# Altium schematic symbol library Cole_.SchLib: 330 symbols (part 5 of 10)
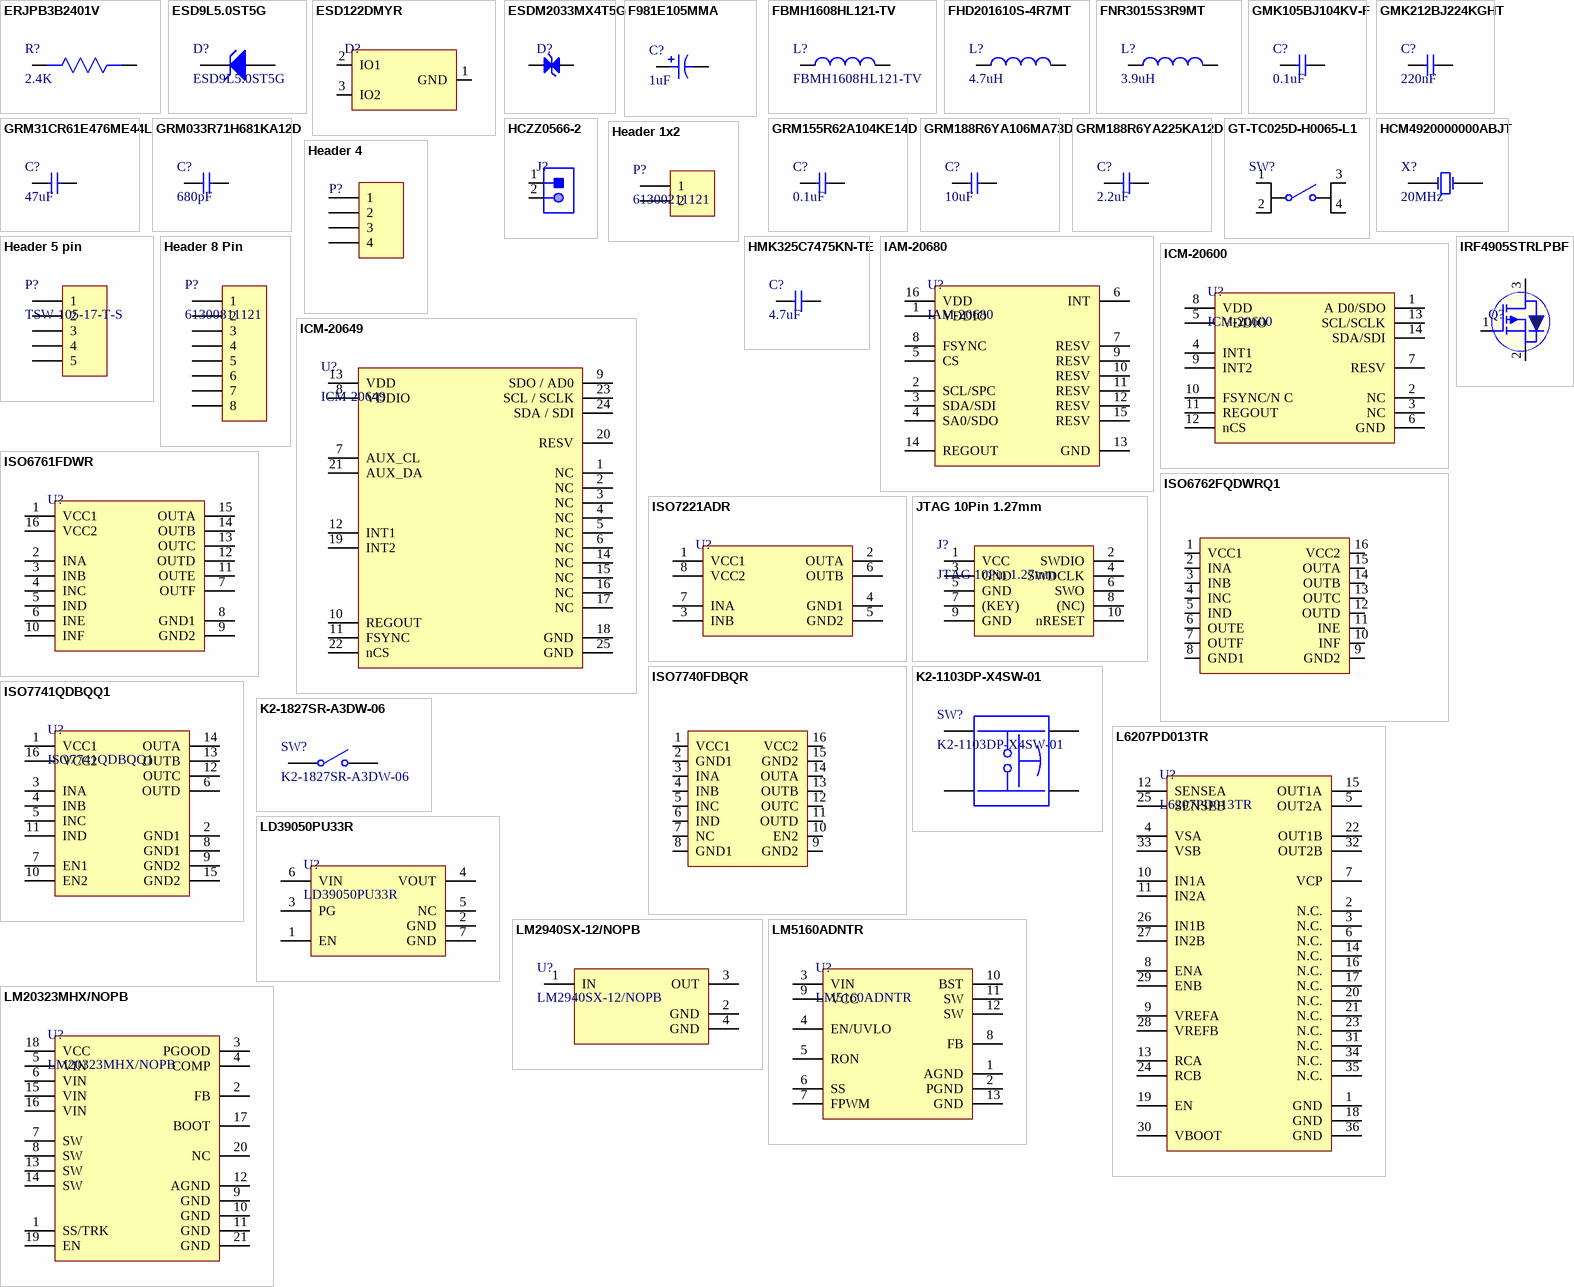
[diagram p12: symbols ERJPB3B2401V to LM20323MHX/NOPB]

## HCM4920000000ABJT
designator X?, comment 20MHz
CRYSTAL 20.0000MHZ 18PF SMD; Manufacturer: CITIZEN; Manufacturer Part Number: HCM4920000000ABJT; ackage: HCM-49SMD; Crystal Type: Passive SMD Crystal; Frequency Tolerance: 30ppm; ESR (Equivalent Series Resistance): 50R; Supplier 1: Digi-Key; RoHS: Yes; Category: Crystals; Stock 1: 172067; Pricing 1: 1=0.60000, 10=0.50000, 50=0.45000, 100=0.40000, 500=0.38000 (USD); Mount: Surface Mount; Min Operating Temperature: -40°C; Max Operating Temperature: 85°C; Load Capacitance: 18pF; Frequency: 20MHz; Lead Free: Lead Free; RoHS Compliant: Yes; ComponentLink1URL: https://datasheet.ciiva.com/16207/hcm49-16207144.pdf?src-supplier=Future+Electronics; ComponentLink1Description: https://datasheet.ciiva.com/16207/hcm49-16207144.pdf?src-supplier=Future+Electronics; Supplier Part Number 1: 300-6142-1-ND
footprint HCM4920000000ABJT (CRYSTAL 20.0000MHZ 18PF SMD)
pins: 1 OSC1, 2 OSC2

## HCZZ0566-2
designator J?
1X2P 1 GH Tinning 1.25mm Female 2 -25℃~+85℃ 1A Brass Straight Plugin,P=1.25mm Wire To Board / Wire To Wire Connector ROHS; Manufacturer: Hong Cheng; Manufacturer Part Number: HCZZ0566-2; Item Type: Wire To Board Connector; ComponentLink1Description: LCSC; ComponentLink1URL: https://www.lcsc.com/product-detail/Wire-To-Board-Wire-To-Wire-Connector_Hong-Cheng-HCZZ0566-2_C7433543.html; Package: Plugin,P=1.25mm; LCSC Part Number: C7433543
footprint HCZZ0566-2
pins: 1, 2

## Header 1x2
designator P?, comment 61300211121
CONN HEADER VERT 2POS 2.54MM; Manufacturer: Wurth Electronics; Current Rating: 3A; Voltage Rating: 250V; Number of Positions: 2; Gender: Male; Connector Type: Male Pin; Pitch: 0.1inch; Supplier 1: Digi-Key; Manufacturer Part Number: 61300211121; Stock 1: 219205; Pricing 1: 1=0.13, 10=0.106, 25=0.088, 50=0.074, 100=0.067, 1000=0.061 (USD); Mount: Through Hole; Contact Plating: Gold; Housing Material: PBT; Contact Material: Copper Alloy,Copper; Color: Black; Min Operating Temperature: -40°C; Max Operating Temperature: 125°C; Number of Rows: 1; Contact Gender: Male; Packaging: Bulk; Termination: Through Hole; Number of Contacts: 2; Contact Mating Length: 0.236inch; REACH SVHC: Unknown; Lead Free: Lead Free; ComponentLink1URL: http://www.mouser.com/ds/2/445/6130xx11121-538006.pdf?src-supplier=Mouser; ComponentLink1Description: http://www.mouser.com/ds/2/445/6130xx11121-538006.pdf?src-supplier=Mouser; Supplier Part Number 1: 732-5315-ND
footprint HDR1X2 (CONN HEADER VERT 2POS 2.54MM)
pins: 1, 2

## Header 4
designator P?
4 Pin Header (2.54mm); Manufacturer: Amphenol FCI; Manufacturer Part Number: 68002-404HLF; Number of Positions: 4; Max Voltage Rating (AC): 1.5kV; Gender: Male; Connector Type: Male Pin; Current Rating: 3A; Insulation Resistance: 5GR; Mating Post Length: 5.84mm; ComponentLink1URL: https://datasheet.ciiva.com/11747/0900766b80dc1d2b-11747084.pdf; ComponentLink1Description: https://datasheet.ciiva.com/11747/0900766b80dc1d2b-11747084.pdf; ComponentLink2URL: https://datasheet.ciiva.com/7639/1836950-7639727.pdf; ComponentLink2Description: https://datasheet.ciiva.com/7639/1836950-7639727.pdf; ComponentLink3URL: https://datasheet.ciiva.com/10151/m20-782-10151359.pdf; ComponentLink3Description: https://datasheet.ciiva.com/10151/m20-782-10151359.pdf; ComponentLink4URL: https://datasheet.ciiva.com/16657/m20-782-16657321.pdf; ComponentLink4Description: https://datasheet.ciiva.com/16657/m20-782-16657321.pdf; ComponentLink5URL: https://datasheet.ciiva.com/6784/m20-782-6784360.pdf; ComponentLink5Description: https://datasheet.ciiva.com/6784/m20-782-6784360.pdf; ComponentLink6URL: https://datasheet.ciiva.com/9474/68000-9474358.pdf; ComponentLink6Description: https://datasheet.ciiva.com/9474/68000-9474358.pdf; ComponentLink7URL: https://datasheet.ciiva.com/16725/68000-16725993.pdf; ComponentLink7Description: https://datasheet.ciiva.com/16725/68000-16725993.pdf; ComponentLink8URL: https://datasheet.ciiva.com/728/68000-728877.pdf; ComponentLink8Description: https://datasheet.ciiva.com/728/68000-728877.pdf; Supplier 1: Digi-Key; Stock 1: 9020; Pricing 1: 1=0.21, 10=0.195, 100=0.1352, 500=0.1144, 1000=0.0936, 5000=0.0832, 10000=0.0754 (USD); Mount: Through Hole; Contact Plating: Nickel,Tin; Contact Material: Bronze; Colour: Black; Housing Colour: Black; Housing Material: Thermoplastic; Min Operating Temperature: -65°C; Max Operating Temperature: 125°C; Number of Rows: 1; Packaging: Bulk; Package Quantity: 100; Termination: Solder; Number of Contacts: 4; Orientation: Straight; Voltage Rating: 1.5kV; Contact Gender: Male; Length: 10.16mm; Pitch: 2.54mm; Depth: 2.41mm; Contact Mating Length: 0.23inch; Termination Post Length: 3.81mm; Radiation Hardening: No; Flammability Rating: UL94 V-0; Supplier Part Number 1: 609-3305-ND
signal-integrity model Connector
footprint HEADER 4 (4 Pin Header (2.54mm))
pins: 1, 2, 3, 4

## Header 5 pin
designator P?, comment TSW-105-17-T-S
CONN HEADER VERT 5POS 2.54MM; Manufacturer: Samtec; Number of Contacts: 5; Gender: Male; Max Current Rating: 7.6A; Max Voltage Rating (AC): 550V; Connector Type: Male Pin; ComponentLink1URL: https://datasheet.ciiva.com/36535/38htsw-th-36535373.pdf?src-supplier=Onlinecomponents.com; ComponentLink1Description: https://datasheet.ciiva.com/36535/38htsw-th-36535373.pdf?src-supplier=Onlinecomponents.com; ComponentLink2URL: https://datasheet.ciiva.com/10256/htsw-th-10256062.pdf?src-supplier=Avnet; ComponentLink2Description: https://datasheet.ciiva.com/10256/htsw-th-10256062.pdf?src-supplier=Avnet; Supplier 1: Digi-Key; Manufacturer Part Number: TSW-105-17-T-S; RoHS: Yes; Category: Connectors; Stock 1: 1375; Pricing 1: 1=0.46000, 10=0.43300, 25=0.37080, 50=0.31520, 100=0.30280, 250=0.27192, 500=0.25956 (USD); Mount: Through Hole; Contact Material: Bronze; Contact Plating: Tin; Color: Black; Housing Color: Black; Housing Material: Polyester; Min Operating Temperature: -55°C; Max Operating Temperature: 105°C; Number of Rows: 1; Packaging: Bulk; Termination: Solder; Series: TSW; Number of Positions: 5; Orientation: Straight; Contact Type: Male Pin; Package Quantity: 1; Length: 12.7mm; Width: 2.54mm; Pitch: 2.54mm; Contact Mating Length: 0.62inch; Depth: 2.54mm; Radiation Hardening: No; RoHS Compliant: Yes; REACH SVHC: No SVHC; Lead Free: Lead Free; ComponentLink3URL: https://datasheet.ciiva.com/6889/tsw-xxx-xx-xxx-x-xx-xxx-mkt-6889598.pdf?src-supplier=Digi-Key; ComponentLink3Description: https://datasheet.ciiva.com/6889/tsw-xxx-xx-xxx-x-xx-xxx-mkt-6889598.pdf?src-supplier=Digi-Key; ComponentLink4URL: https://datasheet.ciiva.com/29947/htsw-th-29947983.pdf?src-supplier=Avnet; ComponentLink4Description: https://datasheet.ciiva.com/29947/htsw-th-29947983.pdf?src-supplier=Avnet; Supplier Part Number 1: SAM1067-05-ND
footprint Header 5 (Connector Header Through Hole 5 position 0.100" (2.54mm))
pins: 1, 2, 3, 4, 5

## Header 8 Pin
designator P?, comment 61300811121
CONN HEADER VERT 8POS 2.54MM; Manufacturer: Wurth Electronics; Number of Positions: 8; Gender: Male; Connector Type: Male Pin; Pitch: 0.1inch; Supplier 1: Digi-Key; Manufacturer Part Number: 61300811121; Stock 1: 7405; Pricing 1: 1=0.37, 10=0.315, 25=0.2632, 50=0.219, 100=0.199, 1000=0.181 (USD); Mount: Through Hole; Contact Plating: Gold; Contact Material: Copper; Color: Black; Number of Rows: 1; Packaging: Bulk; Termination: Solder; Number of Contacts: 8; Contact Mating Length: 0.236inch; REACH SVHC: Unknown; ComponentLink1URL: http://www.farnell.com/cad/1737268.pdf?src-supplier=Element14; ComponentLink1Description: http://www.farnell.com/cad/1737268.pdf?src-supplier=Element14; ComponentLink2URL: https://katalog.we-online.de/em/datasheet/6130xx11121.pdf?src-supplier=Digi-Key; ComponentLink2Description: https://katalog.we-online.de/em/datasheet/6130xx11121.pdf?src-supplier=Digi-Key; Supplier Part Number 1: 732-5321-ND
footprint HDR1X8 (Connector; Header; 8 Position)
pins: 1, 2, 3, 4, 5, 6, 7, 8

## HMK325C7475KN-TE
designator C?, comment 4.7uF
CAP CER 4.7UF 100V X7S 1210; Manufacturer: Taiyo Yuden; Manufacturer Part Number: HMK325C7475KN-TE; Tolerance: 10%; Supplier 1: Digi-Key; RoHS: Yes; Category: Ceramic Capacitors; Stock 1: 447; Pricing 1: 1=1.14000, 10=0.90200, 50=0.78180, 100=0.67660, 500=0.51124, 1000=0.45109 (USD); Mount: Surface Mount; Case/Package: 1210; Case Code (Imperial): 1210; Case Code (Metric): 3225; Min Operating Temperature: -55°C; Max Operating Temperature: 125°C; Packaging: Tape and Reel; Capacitance: 4.7uF; Voltage Rating: 100V; RoHS Compliant: Yes; ComponentLink1URL: http://ds.yuden.co.jp/TYCOMPAS/ut/detail.do?productNo=HMK325C7475KN-TE&fileName=HMK325C7475KN-TE_SS&mode=specSheetDownload&src-supplier=Digi-Key; ComponentLink1Description: http://ds.yuden.co.jp/TYCOMPAS/ut/detail.do?productNo=HMK325C7475KN-TE&fileName=HMK325C7475KN-TE_SS&mode=specSheetDownload&src-supplier=Digi-Key; ComponentLink2URL: http://www.yuden.co.jp/productdata/catalog/mlcc06_e.pdf?src-supplier=Digi-Key; ComponentLink2Description: http://www.yuden.co.jp/productdata/catalog/mlcc06_e.pdf?src-supplier=Digi-Key; Supplier Part Number 1: 587-5038-1-ND
footprint Cap1210 (SMD 1210)
pins: 1, 2

## IAM-20680
designator U?
AUTOMOTIVE QUALIFIED 6-AXIS INTE; Manufacturer: TDK InvenSense; Sensor Type: Accelerometer,Gyroscope,6 Axis; Output Type: SPI,I2C; Supplier 1: Digi-Key; Manufacturer Part Number: IAM-20680; RoHS: Yes; Category: Inertial Measurement Units (IMUs); Stock 1: 1986; Pricing 1: 1=14.80000, 5=14.49600, 10=12.08000, 25=11.17400, 50=10.87200, 100=9.36200, 500=8.75800, 1000=8.30500 (USD); Mount: Surface Mount; Case/Package: LGA; Min Operating Temperature: -40°C; Max Operating Temperature: 85°C; Packaging: Tape and Reel; RoHS Compliant: Yes; ComponentLink1URL: https://www.mouser.com/ds/2/400/DS-000192-ICM-20649-v1.0-1112523.pdf?src-supplier=Mouser; ComponentLink1Description: https://www.mouser.com/ds/2/400/DS-000192-ICM-20649-v1.0-1112523.pdf?src-supplier=Mouser; ComponentLink2URL: https://www.invensense.com/wp-content/uploads/2015/10/IAM-20680-Product-Brief-v1.01.pdf?src-supplier=Digi-Key; ComponentLink2Description: https://www.invensense.com/wp-content/uploads/2015/10/IAM-20680-Product-Brief-v1.01.pdf?src-supplier=Digi-Key; Supplier Part Number 1: 1428-1151-1-ND
footprint 16-LGA (3x3)
pins: 1 VDDIO, 2 SCL/SPC, 3 SDA/SDI, 4 SA0/SDO, 5 CS, 6 INT, 7 RESV, 8 FSYNC, 9 RESV, 10 RESV, 11 RESV, 12 RESV, 13 GND, 14 REGOUT , 15 RESV, 16 VDD

## ICM-20600
designator U?
LOW-POWER, HIGH-PERFORMANCE INTE; Manufacturer: TDK InvenSense; Sensor Type: Accelerometer,Gyroscope,6 Axis; Output Type: SPI,I2C; Supplier 1: Digi-Key; Manufacturer Part Number: ICM-20600; RoHS: Yes; Category: Inertial Measurement Units (IMUs); Pricing 1: 1=3.54000, 5=3.12000, 10=2.75600, 25=2.23600, 50=1.97600, 100=1.92400, 500=1.61200, 1000=1.50800 (USD); Mount: Surface Mount; Case/Package: LGA; Min Operating Temperature: -40°C; Max Operating Temperature: 85°C; Packaging: Cut Tape; RoHS Compliant: Yes; ComponentLink1URL: https://www.mouser.com/ds/2/400/DS-000184-ICM-20600-v1.0-1112739.pdf?src-supplier=Mouser; ComponentLink1Description: https://www.mouser.com/ds/2/400/DS-000184-ICM-20600-v1.0-1112739.pdf?src-supplier=Mouser; ComponentLink2URL: http://www.farnell.com/datasheets/2632675.pdf?src-supplier=Farnell; ComponentLink2Description: http://www.farnell.com/datasheets/2632675.pdf?src-supplier=Farnell; ComponentLink3URL: https://www.invensense.com/wp-content/uploads/2015/12/DS-000184-ICM-20600-v1.0.pdf?src-supplier=Digi-Key; ComponentLink3Description: https://www.invensense.com/wp-content/uploads/2015/12/DS-000184-ICM-20600-v1.0.pdf?src-supplier=Digi-Key; Supplier Part Number 1: 1428-1147-1-ND
footprint 14-LGA (2.5x3)
pins: 1 A D0/SDO, 2 NC, 3 NC, 4 INT1, 5 VDDIO, 6 GND, 7 RESV, 8 VDD, 9 INT2, 10 FSYNC/N C, 11 REGOUT, 12 nCS, 13 SCL/SCLK, 14 SDA/SDI

## ICM-20649
designator U?
WIDE-FULL SCALE RANGE 6-AXIS MEM; Manufacturer: TDK InvenSense; Sensor Type: Accelerometer,Gyroscope,6 Axis,Temperature; Output Type: SPI,I2C; Supplier 1: Digi-Key; Manufacturer Part Number: ICM-20649; RoHS: Yes; Category: Inertial Measurement Units (IMUs); Stock 1: 4990; Pricing 1: 1=12.32000, 5=8.00000, 10=7.20000, 25=6.40000, 50=5.92000, 100=5.12000, 500=4.80000, 1000=4.48000 (USD); Mount: Surface Mount; Case/Package: QFN; Min Operating Temperature: -40°C; Max Operating Temperature: 85°C; Packaging: Tape and Reel; RoHS Compliant: Yes; Supplier Part Number 1: 1428-1142-1-ND
footprint 24-QFN (3x3)
pins: 1 NC, 2 NC, 3 NC, 4 NC, 5 NC, 6 NC, 7 AUX_CL, 8 VDDIO, 9 SDO / AD0, 10 REGOUT, 11 FSYNC, 12 INT1, 13 VDD, 14 NC, 15 NC, 16 NC, 17 NC, 18 GND, 19 INT2, 20 RESV, 21 AUX_DA, 22 nCS, 23 SCL / SCLK, 24 SDA / SDI, 25 GND

## IRF4905STRLPBF
designator Q?
MOSFET P-CH 55V 42A D2PAK; Manufacturer: Infineon; Manufacturer Part Number: IRF4905STRLPBF; Drain to Source Voltage (Vdss): -55V; Input Capacitance: 3.5nF; Max Power Dissipation: 170W; Gate to Source Voltage (Vgs): 20V; Turn-Off Delay Time: 51ns; Turn-On Delay Time: 20ns; Rds On Max: 20mR; Threshold Voltage: 4V; Number of Elements: 1; Fall Time: 64ns; Rise Time: 99ns; Element Configuration: Single; Value: 20mR; Supplier: Mouser; Supplier Part Number: 942-IRF4905STRLPBF; RoHS: Yes; Category: MOSFETs; Stock: 48781; Pricing: 1=2.71, 10=2.23, 50=2.23, 100=1.75, 1000=1.28, 10000=1.16 (USD); Mounting Technology: Surface Mount; Case/Package: D2PAK; Pins: 3; Min Operating Temperature: -55°C; Max Operating Temperature: 150°C; Continuous Drain Current (ID): 42A; Packaging: Cut Tape; Series: HEXFET®; Power Dissipation: 170W; Max Dual Supply Voltage: -55V; Dual Supply Voltage: 55V; Nominal Vgs: 4V; Package Quantity: 800; Termination: SMD/SMT; Drain to Source Breakdown Voltage: -55V; Drain to Source Resistance: 20mR; Number of Channels: 1; On-State Resistance: 20mR; Length: 10.67mm; Width: 9.65mm; Height: 4.83mm; Radiation Hardening: No; Lead Free: Contains Lead; RoHS Compliant: Yes; Reach SVHC Compliant: No; Halogen Free: Halogen Free
footprint D2Pak
pins: 1 G, 2 S, 3 D

## ISO6761FDWR
designator U?
GENERAL PURPOSE, 50-MBPS, SIX-CH; Manufacturer: Texas Instruments; Manufacturer Part Number: ISO6761FDWR; Supplier 1: Digi-Key; RoHS: No; Stock 1: 818; Pricing 1: 1=3.93000, 10=3.53200, 25=3.33920, 100=2.89380, 250=2.74540, 500=2.46344, 1000=2.24000 (USD); Supplier Part Number 1: 296-ISO6761FDWRCT-ND
footprint 16-SOIC
pins: 1 VCC1, 2 INA, 3 INB, 4 INC, 5 IND, 6 INE, 7 OUTF, 8 GND1, 9 GND2, 10 INF, 11 OUTE, 12 OUTD, 13 OUTC, 14 OUTB, 15 OUTA, 16 VCC2

## ISO6762FQDWRQ1
designator U?
AUTOMOTIVE, GENERAL-PURPOSE, 50-; Item Type: IC; LCSC Part Number: C5216383; ComponentLink1Description: LCSC; Supplier: Mouser; Supplier Part Number: 595-ISO6762FQDWRQ1; RoHS: No; Category: Integrated Circuits (ICs); Stock: 8302; Pricing: 1=3.36, 10=2.94, 50=2.94, 100=2.48, 1000=1.78, 10000=1.77 (USD)
footprint 16-SOIC
pins: 1 VCC1, 2 INA, 3 INB, 4 INC, 5 IND, 6 OUTE, 7 OUTF, 8 GND1, 9 GND2, 10 INF, 11 INE, 12 OUTD, 13 OUTC, 14 OUTB, 15 OUTA, 16 VCC2

## ISO7221ADR
designator U?
DGTL ISO 2500VRMS 2CH GP 8SOIC; Manufacturer: Texas Instruments; Manufacturer Part Number: ISO7221ADR; Number of Channels: 2; Data Rate: 1Mbps; Propagation Delay: 475ns; Min Supply Voltage: 3V; Max Supply Voltage: 5.5V; Nominal Supply Current: 10mA; Channel Type: Unidirectional; Isolated Power: No; Pulse Width Distortion (PWD): 14ns; Operating Supply Voltage: 5V; Supplier 1: Mouser; RoHS: Yes; Category: Interface ICs; Pricing 1: 1=3.32000, 10=2.99000, 25=2.83000, 50=2.83000, 100=2.45000, 250=2.32000, 500=2.09000, 1000=1.82000, 10000=1.82000 (USD); Case/Package: SOIC; Number of Pins: 8; Contact Plating: Gold; Weight: 0.019048oz; Min Operating Temperature: -40°C; Max Operating Temperature: 125°C; Package Quantity: 1; Packaging: Tape and Reel; Turn-On Delay Time: 475ns; Type: General Purpose; Series: -; Polarity: Unidirectional; Supply Current: 10mA; Radiation Hardening: No; Lead Free: Lead Free; RoHS Compliant: Yes; REACH SVHC: No SVHC; ComponentLink1URL: https://datasheet.ciiva.com/1496/1763999-1496560.pdf?src-supplier=Element14; ComponentLink1Description: https://datasheet.ciiva.com/1496/1763999-1496560.pdf?src-supplier=Element14; ComponentLink2URL: https://datasheet.ciiva.com/2081/iso7220a-2081968.pdf?src-supplier=Digi-Key; ComponentLink2Description: https://datasheet.ciiva.com/2081/iso7220a-2081968.pdf?src-supplier=Digi-Key; ComponentLink3URL: https://datasheet.ciiva.com/2081/iso7220a-2081969.pdf?src-supplier=Digi-Key; ComponentLink3Description: https://datasheet.ciiva.com/2081/iso7220a-2081969.pdf?src-supplier=Digi-Key; ComponentLink4URL: https://datasheet.ciiva.com/2081/iso7220a-2081970.pdf?src-supplier=Digi-Key; ComponentLink4Description: https://datasheet.ciiva.com/2081/iso7220a-2081970.pdf?src-supplier=Digi-Key; ComponentLink5URL: https://datasheet.ciiva.com/14196/iso7221m-14196783.pdf?src-supplier=Avnet; ComponentLink5Description: https://datasheet.ciiva.com/14196/iso7221m-14196783.pdf?src-supplier=Avnet; ComponentLink6URL: https://datasheet.ciiva.com/15224/getdatasheetpartid-298868-15224022.pdf?src-supplier=Verical; ComponentLink6Description: https://datasheet.ciiva.com/15224/getdatasheetpartid-298868-15224022.pdf?src-supplier=Verical; Supplier Part Number 1: 595-ISO7221ADR
footprint SOIC-8
pins: 1 VCC1, 2 OUTA, 3 INB, 4 GND1, 5 GND2, 6 OUTB, 7 INA, 8 VCC2

## ISO7740FDBQR
designator U?
DGTL ISO 3000VRMS 4CH GP 16SSOP; Item Type: IC; LCSC Part Number: C544482; ComponentLink1Description: LCSC; Supplier: Mouser; Supplier Part Number: 595-ISO7740FDBQR; RoHS: Yes; Category: Integrated Circuits (ICs); Stock: 3733; Pricing: 1=2.67, 10=2.34, 50=2.34, 100=1.95, 1000=1.47, 10000=1.2 (USD); ComponentLink2URL: http://www.ti.com/general/docs/suppproductinfo.tsp?distId=10&amp;gotoUrl=http%3A%2F%2Fwww.ti.com%2Flit%2Fgpn%2Fiso7742&src-supplier=Digi-Key; ComponentLink2Description: http://www.ti.com/general/docs/suppproductinfo.tsp?distId=10&amp;gotoUrl=http%3A%2F%2Fwww.ti.com%2Flit%2Fgpn%2Fiso7742&src-supplier=Digi-Key; ComponentLink3URL: http://www.ti.com/lit/ds/symlink/iso7742.pdf?src-supplier=Digi-Key; ComponentLink3Description: http://www.ti.com/lit/ds/symlink/iso7742.pdf?src-supplier=Digi-Key
footprint 16-SSOP
pins: 1 VCC1, 2 GND1, 3 INA, 4 INB, 5 INC, 6 IND, 7 NC, 8 GND1, 9 GND2, 10 EN2, 11 OUTD, 12 OUTC, 13 OUTB, 14 OUTA, 15 GND2, 16 VCC2

## ISO7741QDBQQ1
designator U?
DGTL ISO 3000VRMS 4CH 16SSOP; Manufacturer: Texas Instruments; Number of Channels: 4; Isolated Power: No; Channel Type: Unidirectional; Data Rate: 100Mbps; Propagation Delay: 16ns; Pulse Width Distortion (PWD): 4.9ns; Supplier 1: Digi-Key; Manufacturer Part Number: ISO7741QDBQQ1; RoHS: Yes; Category: Integrated Circuits (ICs); Pricing 1: 225=2.92067 (USD); Mount: Surface Mount; Case/Package: SSOP; Min Operating Temperature: -40°C; Max Operating Temperature: 125°C; Type: General Purpose; RoHS Compliant: Yes; ComponentLink1URL: http://www.ti.com/lit/ds/symlink/iso7741-q1.pdf?src-supplier=Digi-Key; ComponentLink1Description: http://www.ti.com/lit/ds/symlink/iso7741-q1.pdf?src-supplier=Digi-Key; Supplier Part Number 1: ISO7741QDBQQ1-ND
footprint ISO7741QDBQQ1
pins: 1 VCC1, 2 GND1, 3 INA, 4 INB, 5 INC, 6 OUTD, 7 EN1, 8 GND1, 9 GND2, 10 EN2, 11 IND, 12 OUTC, 13 OUTB, 14 OUTA, 15 GND2, 16 VCC2

## JTAG 10Pin 1.27mm
designator J?
10 Pin JTAG Header for ICE programmer (1.27mm Pitch)
footprint JTAG 10Pin 1.27mm (Male header 1.27mm 5x2 10-Pin)
pins: 1 VCC, 2 SWDIO, 3 GND, 4 SWDCLK, 5 GND, 6 SWO, 7 (KEY), 8 (NC), 9 GND, 10 nRESET

## K2-1103DP-X4SW-01
designator SW?
SPST 50mA @ 12VDC Vertical Round Button Through Hole Tactile Switches RoHS; Manufacturer: Korean Hroparts Elec; Illumination: Non-Illuminated; Outline: 12x12mm; Package: Through Hole; Circuit: SPST; Contact Rating @ Voltage: 50mA @ 12VDC; Actuator Orientation: Vertical; Actuator Type: Round Button; Manufacturer Part No: K2-1103DP-X4SW-01
footprint K2-1103DP-X4SW-01 (? EasyEDA Model    Description  SPST 50mA @ 12VDC Vertical Round Button Through Hole Tactile Switches RoHS)
pins: 1, 2, 3, 4

## K2-1827SR-A3DW-06
designator SW?
SPST 50mA @ 12VDC Vertical Round Button 3*2.1mm Tactile Switches RoHS; Manufacturer: Korean Hroparts Elec; Package: 3*2.1mm; Circuit: SPST; Contact Rating @ Voltage: 50mA @ 12VDC; Actuator Orientation: Vertical; Actuator Type: Round Button
footprint K2-1827SR-A3DW-06 (SPST 50mA @ 12VDC Vertical Round Button 3*2.1mm Tactile Switches RoHS)
pins: 1, 2

## L6207PD013TR
designator U?
IC MOTOR DRIVER PAR 36POWERSO; Manufacturer: STMicroelectronics; Operating Supply Voltage: 48V; Nominal Supply Current: 10mA; Max Supply Voltage: 52V; Min Supply Voltage: 8V; Max Output Current: 5.6A; Number of Outputs: 4; On-State Resistance: 300mR; Output Current per Channel: 2.8A; Number of Channels: 2; Motor Type: Brushed; Supplier 1: Digi-Key; Manufacturer Part Number: L6207PD013TR; RoHS: Yes; Category: Motor Drivers; Stock 1: 1559; Pricing 1: 1=7.69000, 10=6.94600, 25=6.62320, 100=5.75100, 250=5.49248 (USD); Mount: Surface Mount; Number of Pins: 36; Min Operating Temperature: -25°C; Max Operating Temperature: 150°C; Packaging: Tape and Reel; Package Quantity: 1; Max Collector Current: 2.8A; Collector Emitter Voltage (VCEO): 52V; Series: -; Supply Current: 10mA; Output Impedance: 300mR; Length: 16mm; Width: 11.1mm; Height: 3.3mm; Radiation Hardening: No; Lead Free: Lead Free; RoHS Compliant: Yes; ComponentLink1URL: https://datasheet.ciiva.com/15109/getdatasheetpartid-255965-15109451.pdf?src-supplier=Verical; ComponentLink1Description: https://datasheet.ciiva.com/15109/getdatasheetpartid-255965-15109451.pdf?src-supplier=Verical; ComponentLink2URL: https://datasheet.ciiva.com/1955/cd00002293-1955584.pdf?src-supplier=Digi-Key; ComponentLink2Description: https://datasheet.ciiva.com/1955/cd00002293-1955584.pdf?src-supplier=Digi-Key; ComponentLink3URL: https://datasheet.ciiva.com/1955/cd00002293-1955585.pdf?src-supplier=Digi-Key; ComponentLink3Description: https://datasheet.ciiva.com/1955/cd00002293-1955585.pdf?src-supplier=Digi-Key; ComponentLink4URL: https://datasheet.ciiva.com/1955/cd00002293-1955586.pdf?src-supplier=Digi-Key; ComponentLink4Description: https://datasheet.ciiva.com/1955/cd00002293-1955586.pdf?src-supplier=Digi-Key; ComponentLink5URL: https://datasheet.ciiva.com/16458/cd00002293-16458167.pdf?src-supplier=Future+Electronics; ComponentLink5Description: https://datasheet.ciiva.com/16458/cd00002293-16458167.pdf?src-supplier=Future+Electronics; ComponentLink6URL: https://datasheet.ciiva.com/17233/cd00002293-17233880.pdf?src-supplier=Avnet+Europe; ComponentLink6Description: https://datasheet.ciiva.com/17233/cd00002293-17233880.pdf?src-supplier=Avnet+Europe; ComponentLink7URL: https://datasheet.ciiva.com/41457/001185253-da-01-en-ic-motor-dri-l6207pd013tr-powerso-36-stm-41457930.pdf?src-supplier=Conrad; ComponentLink7Description: https://datasheet.ciiva.com/41457/001185253-da-01-en-ic-motor-dri-l6207pd013tr-powerso-36-stm-41457930.pdf?src-supplier=Conrad; Supplier Part Number 1: 497-4000-1-ND
footprint PowerSO-36
pins: 1 GND, 2 N.C., 3 N.C., 4 VSA, 5 OUT2A, 6 N.C., 7 VCP, 8 ENA, 9 VREFA, 10 IN1A, 11 IN2A, 12 SENSEA, 13 RCA, 14 N.C., 15 OUT1A, 16 N.C., 17 N.C., 18 GND, 19 EN, 20 N.C., 21 N.C., 22 OUT1B, 23 N.C., 24 RCB, 25 SENSEB, 26 IN1B, 27 IN2B, 28 VREFB, 29 ENB, 30 VBOOT, 31 N.C., 32 OUT2B, 33 VSB, 34 N.C., 35 N.C., 36 GND

## LD39050PU33R
designator U?
IC REG LINEAR 3.3V 500MA 6DFN; Manufacturer: STMicroelectronics; Dropout Voltage: 200mV; Max Input Voltage: 5.5V; Min Input Voltage: 1.5V; Number of Outputs: 1; Input Bias Current: 20uA; Polarity: Positive; Quiescent Current: 50uA; Accuracy: 2%; Output Type: Fixed; Supplier 1: Digi-Key; Manufacturer Part Number: LD39050PU33R; RoHS: Yes; Category: Voltage Regulators - Linear; Stock 1: 7524; Pricing 1: 1=1.15000, 10=1.03200, 25=0.97960, 100=0.80450, 250=0.75208, 500=0.66462, 1000=0.57750 (USD); Mount: Surface Mount; Case/Package: DFN EP; Number of Pins: 6; Contact Plating: Tin,Matte; Min Operating Temperature: -40°C; Max Operating Temperature: 125°C; Package Quantity: 1; Packaging: Tape and Reel; Output Voltage: 3.3V; Max Output Current: 500mA; Output Current: 500mA; Number of Regulators: 1; Min Output Voltage: 3.3V; Output Voltage Accuracy: 2%; Series: -; Radiation Hardening: No; Lead Free: Lead Free; RoHS Compliant: Yes; ComponentLink1URL: https://datasheet.ciiva.com/15111/getdatasheetpartid-116115-15111821.pdf?src-supplier=Verical; ComponentLink1Description: https://datasheet.ciiva.com/15111/getdatasheetpartid-116115-15111821.pdf?src-supplier=Verical; ComponentLink2URL: https://datasheet.ciiva.com/41441/001186049-da-01-en-ic-reg-ldo-3-3v-ld39050pu33r-vdfn-6-stm-41441150.pdf?src-supplier=Conrad; ComponentLink2Description: https://datasheet.ciiva.com/41441/001186049-da-01-en-ic-reg-ldo-3-3v-ld39050pu33r-vdfn-6-stm-41441150.pdf?src-supplier=Conrad; ComponentLink3URL: https://datasheet.ciiva.com/2043/cd00227527-2043264.pdf?src-supplier=Digi-Key; ComponentLink3Description: https://datasheet.ciiva.com/2043/cd00227527-2043264.pdf?src-supplier=Digi-Key; ComponentLink4URL: https://datasheet.ciiva.com/2043/cd00227527-2043265.pdf?src-supplier=Digi-Key; ComponentLink4Description: https://datasheet.ciiva.com/2043/cd00227527-2043265.pdf?src-supplier=Digi-Key; ComponentLink5URL: https://datasheet.ciiva.com/16457/cd00227527-16457803.pdf?src-supplier=Future+Electronics; ComponentLink5Description: https://datasheet.ciiva.com/16457/cd00227527-16457803.pdf?src-supplier=Future+Electronics; ComponentLink6URL: https://datasheet.ciiva.com/2043/cd00227527-2043263.pdf?src-supplier=Digi-Key; ComponentLink6Description: https://datasheet.ciiva.com/2043/cd00227527-2043263.pdf?src-supplier=Digi-Key; Supplier Part Number 1: 497-8716-1-ND
footprint DFN-6
pins: 1 EN, 2 GND, 3 PG, 4 VOUT, 5 NC, 6 VIN, 7 GND

## LM2940SX-12/NOPB
designator U?
IC REG LIN 12V 1A DDPAK/TO263-3; Manufacturer: TI National Semiconductor; Number of Outputs: 1; Min Input Voltage: 13.6V; Max Input Voltage: 26V; Polarity: Positive; Quiescent Current: 15mA; Output Type: Fixed; Dropout Voltage: 500mV; Supplier 1: Digi-Key; Manufacturer Part Number: LM2940SX-12/NOPB; RoHS: Yes; Category: Voltage Regulators - Linear; Stock 1: 65; Pricing 1: 1=2.01000, 10=1.80900, 25=1.70640, 100=1.45400, 250=1.36528 (USD); Mount: Surface Mount; Case/Package: TO-263; Contact Plating: Tin,Matte; Min Operating Temperature: -40°C; Max Operating Temperature: 125°C; Output Voltage: 12V; Packaging: Tape and Reel; Package Quantity: 500; Output Current: 1A; Max Output Current: 1A; Number of Regulators: 1; Radiation Hardening: No; Lead Free: Contains Lead; RoHS Compliant: Yes; ComponentLink1URL: https://datasheet.ciiva.com/27051/1263574-27051792.pdf?src-supplier=Jameco; ComponentLink1Description: https://datasheet.ciiva.com/27051/1263574-27051792.pdf?src-supplier=Jameco; ComponentLink2URL: https://datasheet.ciiva.com/41458/001014001-da-01-en-ic-reg-ldo-lm2940sx-12-nopb-to-263-3-tid-41458130.pdf?src-supplier=Conrad; ComponentLink2Description: https://datasheet.ciiva.com/41458/001014001-da-01-en-ic-reg-ldo-lm2940sx-12-nopb-to-263-3-tid-41458130.pdf?src-supplier=Conrad; ComponentLink3URL: https://datasheet.ciiva.com/6580/lm2940-n-6580270.pdf?src-supplier=Digi-Key; ComponentLink3Description: https://datasheet.ciiva.com/6580/lm2940-n-6580270.pdf?src-supplier=Digi-Key; Supplier Part Number 1: LM2940SX-12/NOPBCT-ND
footprint TO-263-3 (Fixed 26V 12V 1V @ 1A TO-263-3 Dropout Regulators(LDO) RoHS)
pins: 1 IN, 2 GND, 3 OUT, 4 GND

## LM5160ADNTR
designator U?
IC REG BUCK FLYBCK ADJ 12WSON; Manufacturer: Texas Instruments; Number of Outputs: 1; Min Input Voltage: 4.5V; Max Input Voltage: 65V; Min Output Voltage: 2V; Max Output Voltage: 60V; Output Current: 1.5A; Switching Frequency: 1MHz; Synchronous Rectifier: Yes; Quiescent Current: 2.3mA; Topology: Flyback; Output Type: Adjustable; Supplier 1: Digi-Key; Manufacturer Part Number: LM5160ADNTR; RoHS: Yes; Category: Power Supply Modules; Pricing 1: 1=5.87000, 10=5.27300, 25=4.98480, 100=4.32000, 250=4.09848, 500=3.67756 (USD); Mount: Surface Mount; Min Operating Temperature: -40°C; Max Operating Temperature: 125°C; Packaging: Tape and Reel; Lead Free: Lead Free; RoHS Compliant: Yes; ComponentLink1URL: http://www.ti.com/lit/ds/symlink/lm5160a.pdf?src-supplier=Digi-Key; ComponentLink1Description: http://www.ti.com/lit/ds/symlink/lm5160a.pdf?src-supplier=Digi-Key; ComponentLink2URL: http://www.ti.com/general/docs/suppproductinfo.tsp?distId=10&amp;gotoUrl=http%3A%2F%2Fwww.ti.com%2Flit%2Fgpn%2Flm5160a&src-supplier=Digi-Key; ComponentLink2Description: http://www.ti.com/general/docs/suppproductinfo.tsp?distId=10&amp;gotoUrl=http%3A%2F%2Fwww.ti.com%2Flit%2Fgpn%2Flm5160a&src-supplier=Digi-Key; Supplier Part Number 1: 296-46121-6-ND
footprint LM5160ADNTR
pins: 1 AGND, 2 PGND, 3 VIN, 4 EN/UVLO, 5 RON, 6 SS, 7 FPWM, 8 FB, 9 VCC, 10 BST, 11 SW, 12 SW, 13 GND

## LM20323MHX/NOPB
designator U?
Step-down type HTSSOP-20 DC-DC Converters ROHS; Manufacturer: TI National Semiconductor; Output Voltage: 32V; Number of Outputs: 1; Max Output Current: 3A; Min Input Voltage: 4.5V; Max Input Voltage: 36V; Efficiency: 93%; Switching Frequency: 520kHz; Synchronous Rectifier: Yes; Min Output Voltage: 800mV; Max Output Voltage: 25.2V; Quiescent Current: 2.3mA; Output Type: Adjustable; Output Configuration: Positive; Supplier 1: Digi-Key; Manufacturer Part Number: LM20323MHX/NOPB; RoHS: Yes; Category: Voltage Regulators - Switching; Stock 1: 2210; Pricing 1: 1=3.89000, 10=3.49200, 25=3.30080, 100=2.86070, 250=2.71404, 500=2.43528, 1000=2.42200 (USD); Mount: Surface Mount; Case/Package: HTSSOP; Number of Pins: 20; Contact Plating: Tin,Matte; Min Operating Temperature: -40°C; Max Operating Temperature: 125°C; Output Current: 3A; Package Quantity: 2500; Operating Supply Voltage: 36V; Packaging: Tape and Reel; Series: PowerWise®; Radiation Hardening: No; Lead Free: Lead Free; RoHS Compliant: Yes; ComponentLink1URL: https://datasheet.ciiva.com/6593/lm20323-6593565.pdf?src-supplier=Digi-Key; ComponentLink1Description: https://datasheet.ciiva.com/6593/lm20323-6593565.pdf?src-supplier=Digi-Key; ComponentLink2URL: https://datasheet.ciiva.com/6604/lm20323-6604285.pdf?src-supplier=Digi-Key; ComponentLink2Description: https://datasheet.ciiva.com/6604/lm20323-6604285.pdf?src-supplier=Digi-Key; ComponentLink3URL: https://datasheet.ciiva.com/6593/lm20323-6593566.pdf?src-supplier=Digi-Key; ComponentLink3Description: https://datasheet.ciiva.com/6593/lm20323-6593566.pdf?src-supplier=Digi-Key; Supplier Part Number 1: LM20323MHX/NOPBCT-ND
footprint HTSSOP-20
pins: 1 SS/TRK, 2 FB, 3 PGOOD, 4 COMP, 5 VIN, 6 VIN, 7 SW, 8 SW, 9 GND, 10 GND, 11 GND, 12 AGND, 13 SW, 14 SW, 15 VIN, 16 VIN, 17 BOOT, 18 VCC, 19 EN, 20 NC, 21 GND

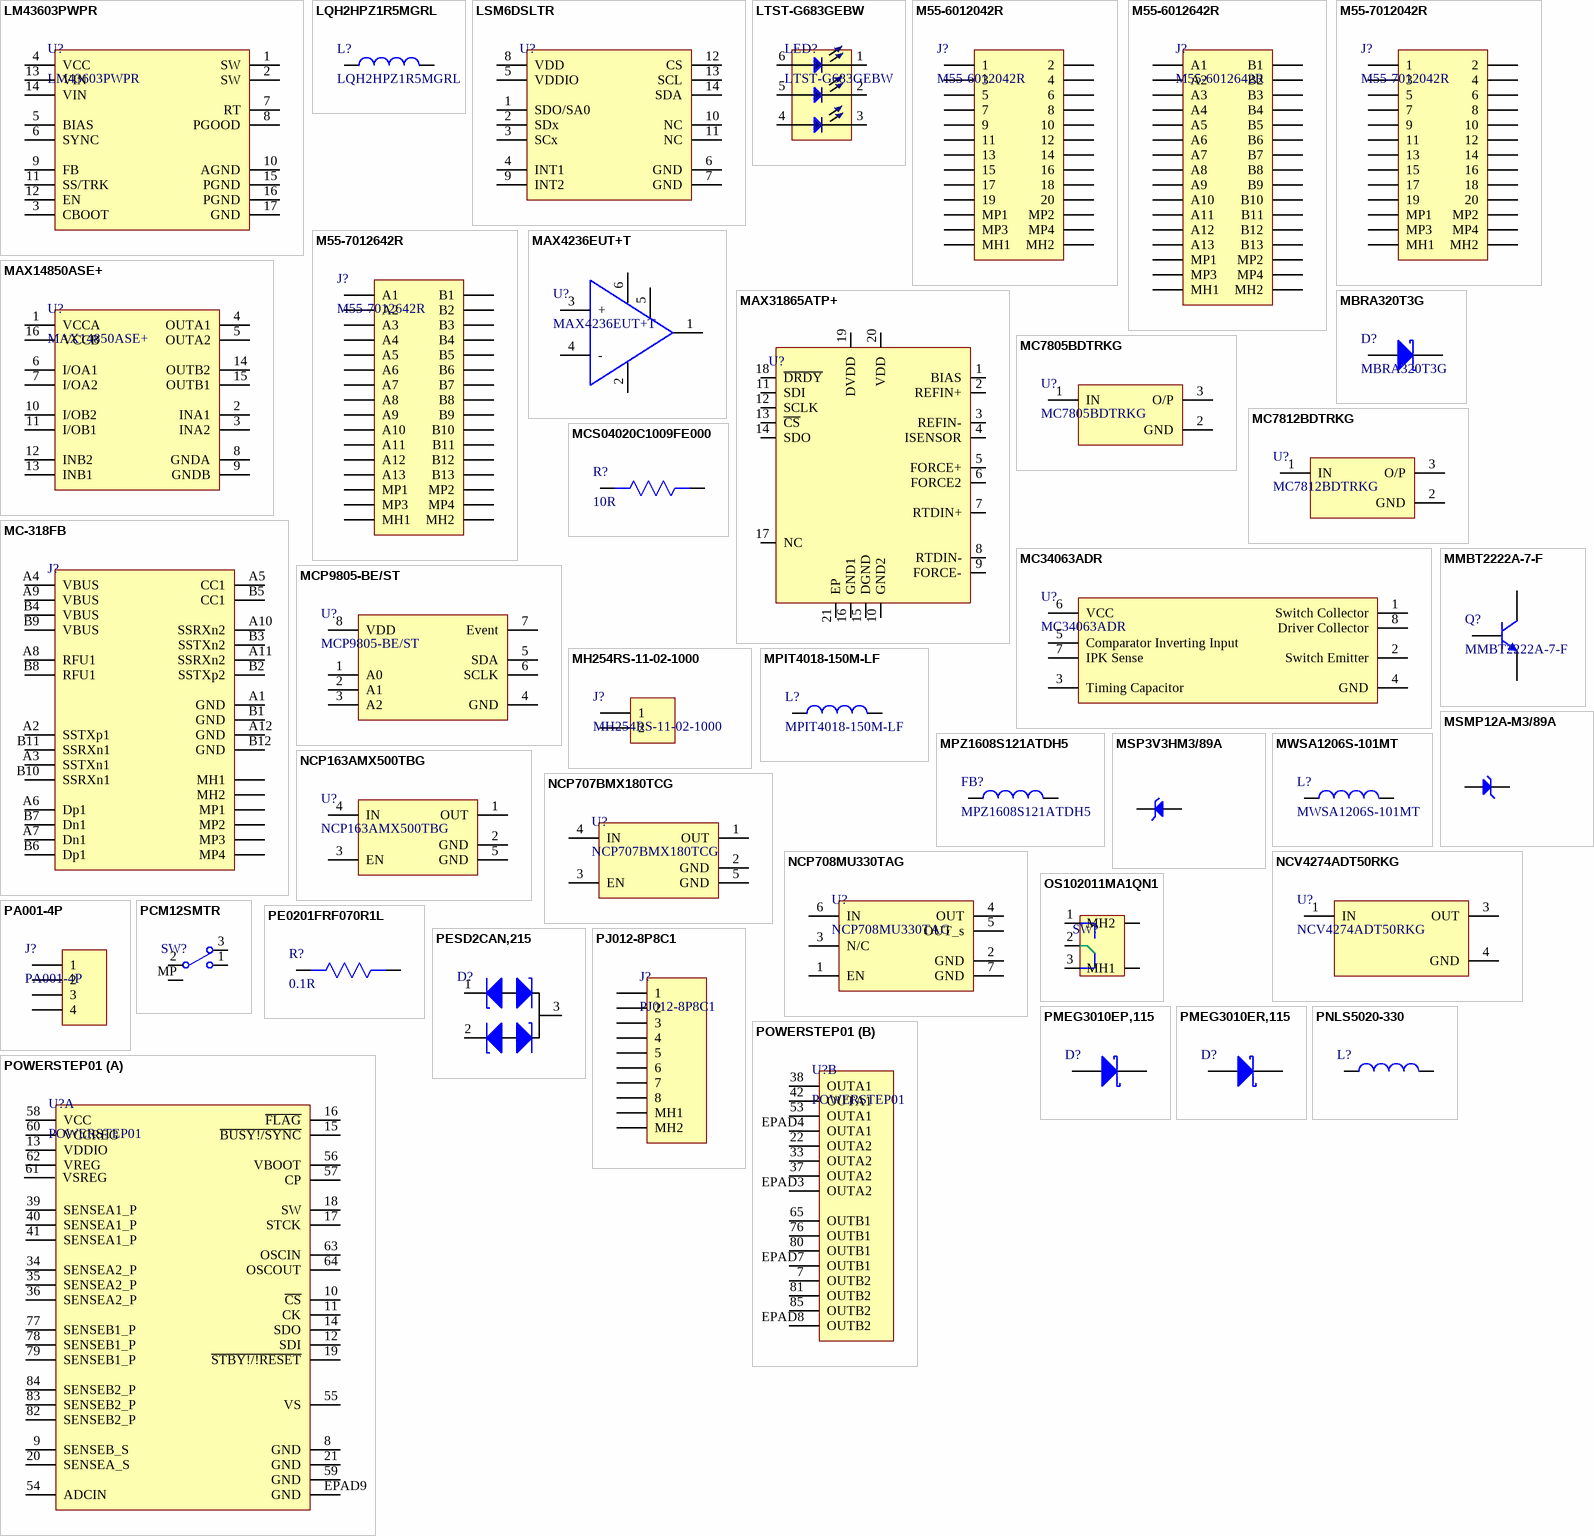
[diagram p4: symbols LM43603PWPR to POWERSTEP01]

## LM43603PWPR
designator U?
3.5V to 36V, 3A Synchronous Step-Down Voltage Converter 16-HTSSOP -40 to 125; Manufacturer: Texas Instruments; Number of Outputs: 1; Output Voltage: 28V; Switching Frequency: 2.2MHz; Quiescent Current: 27uA; Supplier 1: Digi-Key; Manufacturer Part Number: LM43603PWPR; RoHS: Yes; Category: Power Supply Modules; Pricing 1: 1=5.03000, 10=4.51800, 25=4.27160, 100=3.70200, 250=3.51216, 500=3.15144, 1000=3.13425 (USD); Mount: Surface Mount; Case/Package: SOP; Number of Pins: 16; Weight: 0.225753oz; Min Operating Temperature: -40°C; Max Operating Temperature: 125°C; Packaging: Tape and Reel; Max Output Current: 3A; Min Input Voltage: 3.5V; Max Input Voltage: 36V; Package Quantity: 2000; Operating Supply Voltage: 36V; Radiation Hardening: No; Lead Free: Lead Free; RoHS Compliant: Yes; ComponentLink1URL: http://www.ti.com/general/docs/lit/getliterature.tsp?genericPartNumber=LM43603&&fileType=pdf&src-supplier=Avnet; ComponentLink1Description: http://www.ti.com/general/docs/lit/getliterature.tsp?genericPartNumber=LM43603&&fileType=pdf&src-supplier=Avnet; ComponentLink2URL: http://www.ti.com/general/docs/suppproductinfo.tsp?distId=10&amp;gotoUrl=http%3A%2F%2Fwww.ti.com%2Flit%2Fgpn%2Flm43603&src-supplier=Digi-Key; ComponentLink2Description: http://www.ti.com/general/docs/suppproductinfo.tsp?distId=10&amp;gotoUrl=http%3A%2F%2Fwww.ti.com%2Flit%2Fgpn%2Flm43603&src-supplier=Digi-Key; ComponentLink3URL: http://www.ti.com/lit/ds/symlink/lm43603.pdf?src-supplier=Digi-Key; ComponentLink3Description: http://www.ti.com/lit/ds/symlink/lm43603.pdf?src-supplier=Digi-Key; ComponentLink4URL: http://www.ti.com/lit/gpn/lm43603?src-supplier=Mouser; ComponentLink4Description: http://www.ti.com/lit/gpn/lm43603?src-supplier=Mouser; Supplier Part Number 1: 296-44477-1-ND
footprint HTSSOP-16
pins: 1 SW, 2 SW, 3 CBOOT, 4 VCC, 5 BIAS, 6 SYNC, 7 RT, 8 PGOOD, 9 FB, 10 AGND, 11 SS/TRK, 12 EN, 13 VIN, 14 VIN, 15 PGND, 16 PGND, 17 GND

## LQH2HPZ1R5MGRL
designator L?
1.5uH ±20% SMD Power Inductors ROHS; Manufacturer: Murata; Supplier 1: Digi-Key; Manufacturer Part Number: LQH2HPZ1R5MGRL; RoHS: Yes; Category: Fixed Inductors; Stock 1: 5012; Pricing 1: 1=0.46000, 10=0.40400, 25=0.37520, 50=0.31760, 100=0.28880, 250=0.27144, 500=0.24256, 1000=0.19635 (USD); RoHS Compliant: Yes; Supplier Part Number 1: 490-15894-1-ND
footprint LQH2HPZ1R5MGRL
pins: 1, 2

## LSM6DSLTR
designator U?
IMUACCEL/GYROI2C/SPI14LGA; Manufacturer: STMicroelectronics; Manufacturer Part Number: LSM6DSLTR; Sensor Type: Accelerometer,Gyroscope,3 Axis,Temperature; Output Type: SPI,I2C; Item Type: IC; Supplier 1: Digi-Key; RoHS: Yes; Category: Inertial Measurement Units (IMUs); Stock 1: 17790; Pricing 1: 1=6.37000, 10=5.72400, 25=5.41120, 100=4.68960, 250=4.44912, 500=3.99218, 1000=3.97040 (USD); Mount: Surface Mount; Case/Package: LGA; Min Operating Temperature: -40°C; Max Operating Temperature: 85°C; Packaging: Tape and Reel; RoHS Compliant: Yes; ComponentLink1URL: http://www.farnell.com/datasheets/2290668.pdf?src-supplier=Farnell; ComponentLink1Description: http://www.farnell.com/datasheets/2290668.pdf?src-supplier=Farnell; ComponentLink2URL: https://www.mouser.com/ds/2/389/lsm6dsl-973708.pdf?src-supplier=Mouser; ComponentLink2Description: https://www.mouser.com/ds/2/389/lsm6dsl-973708.pdf?src-supplier=Mouser; ComponentLink3URL: http://www.farnell.com/datasheets/2290668.pdf?src-supplier=Newark; ComponentLink3Description: http://www.farnell.com/datasheets/2290668.pdf?src-supplier=Newark; ComponentLink4URL: http://www.farnell.com/datasheets/2290668.pdf?src-supplier=Element14; ComponentLink4Description: http://www.farnell.com/datasheets/2290668.pdf?src-supplier=Element14; ComponentLink5URL: http://www.st.com/content/ccc/resource/technical/document/datasheet/ee/23/a0/dc/1d/68/45/52/DM00237456.pdf/files/DM00237456.pdf/jcr:content/translations/en.DM00237456.pdf?src-supplier=Digi-Key; ComponentLink5Description: http://www.st.com/content/ccc/resource/technical/document/datasheet/ee/23/a0/dc/1d/68/45/52/DM00237456.pdf/files/DM00237456.pdf/jcr:content/translations/en.DM00237456.pdf?src-supplier=Digi-Key; LCSC Part Number: C126672; Supplier Part Number 1: 497-16705-1-ND
footprint 14 LGA (2.5x3)
pins: 1 SDO/SA0, 2 SDx, 3 SCx, 4 INT1, 5 VDDIO, 6 GND, 7 GND, 8 VDD, 9 INT2, 10 NC, 11 NC, 12 CS, 13 SCL, 14 SDA

## LTST-G683GEBW
designator LED?
Standard LEDs - SMD SMD LED Red/Grn/Blue 625/1550/260 mcd; Manufacturer: Vishay Lite-On; Color: Blue,Green,Red; Luminous Intensity: 267.5mcd; Viewing Angle: 120°; Lens Style: Diffused,Circular; Forward Voltage: 3.8V; Forward Current: 20mA; Lens Transparency: Diffused; Dominant Wavelength: 525nm; Number of Elements: 3; Reverse Voltage: 5V; Supplier 1: Mouser; Manufacturer Part Number: LTST-G683GEBW; RoHS: Yes; Category: LEDs; Stock 1: 43790; Pricing 1: 1=0.51000, 10=0.46000, 50=0.46000, 100=0.34600, 500=0.29900, 1000=0.23600, 2000=0.21200, 10000=0.20900, 24000=0.20400, 50000=0.19700 (USD); Mount: Surface Mount; Case/Package: PLCC; Number of Pins: 6; Min Operating Temperature: -40°C; Max Operating Temperature: 85°C; Packaging: Tape and Reel; Package Quantity: 2000; Test Current: 20mA; Number of LEDs: 3; Series: -; Length: 3.3mm; Width: 3mm; Height: 1.45mm; Depth: 3.2mm; Radiation Hardening: No; Lead Free: Lead Free; RoHS Compliant: Yes; ComponentLink1URL: https://datasheet.ciiva.com/2959/s-110-ltst-g683gebw-2959963.pdf?src-supplier=Digi-Key; ComponentLink1Description: https://datasheet.ciiva.com/2959/s-110-ltst-g683gebw-2959963.pdf?src-supplier=Digi-Key; ComponentLink2URL: https://datasheet.ciiva.com/12403/s-110-ltst-g683gebw-337108-12403142.pdf?src-supplier=Mouser; ComponentLink2Description: https://datasheet.ciiva.com/12403/s-110-ltst-g683gebw-337108-12403142.pdf?src-supplier=Mouser; Supplier Part Number 1: 859-LTST-G683GEBW
footprint LTST-G683GEBW
pins: 1 -, 2 -, 3 -, 4 +, 5 +, 6 +

## M55-6012042R
designator J?
CONN RCPT 1.27MM DUAL SMD 20POS; Manufacturer: Harwin; Connector Type: Receptacle,Socket; Number of Positions: 20; Current Rating: 1.2A; Voltage Rating (AC): 100V; Mated Stacking Heights: 13.9mm; Supplier 1: Digi-Key; Manufacturer Part Number: M55-6012042R; RoHS: Yes; Category: Connectors; Stock 1: 144; Pricing 1: 1=1.88000, 10=1.71000, 100=1.46580 (USD); Mount: Surface Mount; Contact Plating: Gold; Insulation Color: Black; Min Operating Temperature: -55°C; Max Operating Temperature: 125°C; Fastening Type: Latch; Packaging: Cut Tape; Number of Rows: 2; Termination: Solder; Flammability Rating: UL94 V-0; RoHS Compliant: Yes; ComponentLink1URL: https://media.digikey.com/pdf/Data%20Sheets/Harwin%20PDFs/Harwin_Archer_Kontrol_New_Product.pdf?src-supplier=Digi-Key; ComponentLink1Description: https://media.digikey.com/pdf/Data%20Sheets/Harwin%20PDFs/Harwin_Archer_Kontrol_New_Product.pdf?src-supplier=Digi-Key; ComponentLink2URL: https://cdn.harwin.com/pdfs/M55-60X.pdf?src-supplier=Digi-Key; ComponentLink2Description: https://cdn.harwin.com/pdfs/M55-60X.pdf?src-supplier=Digi-Key; Supplier Part Number 1: 952-3845-1-ND
footprint M55-6012042R
pins: 1, 2, 3, 4, 5, 6, 7, 8, 9, 10, 11, 12, 13, 14, 15, 16, 17, 18, 19, 20, MH1, MH2, MP1, MP2, MP3, MP4

## M55-6012642R
designator J?
CONN RCPT 26POS 0.05 GOLD SMD; Manufacturer: Harwin; Supplier 1: Digi-Key; Manufacturer Part Number: M55-6012642R; RoHS: Yes; Category: Connectors; Stock 1: 320; Pricing 1: 1=2.50000, 10=2.17600, 100=1.94480 (USD); RoHS Compliant: Yes; Supplier Part Number 1: 952-3846-1-ND
footprint M55-6012642R
pins: A1, A2, A3, A4, A5, A6, A7, A8, A9, A10, A11, A12, A13, B1, B2, B3, B4, B5, B6, B7, B8, B9, B10, B11, B12, B13, MH1, MH2, MP1, MP2, MP3, MP4

## M55-7012042R
designator J?
CONN HEADER SMD 20POS 1.27MM; Manufacturer: Harwin; Supplier 1: Digi-Key; Manufacturer Part Number: M55-7012042R; RoHS: Yes; Category: Connectors; Stock 1: 1091; Pricing 1: 1=1.29000, 10=1.13300, 100=0.97770 (USD); RoHS Compliant: Yes; Supplier Part Number 1: 952-3877-1-ND
footprint M55-7012042R
pins: 1, 2, 3, 4, 5, 6, 7, 8, 9, 10, 11, 12, 13, 14, 15, 16, 17, 18, 19, 20, MH1, MH2, MP1, MP2, MP3, MP4

## M55-7012642R
designator J?
CONN HEADER SMD 26POS 1.27MM; Manufacturer: Harwin; Supplier 1: Digi-Key; Manufacturer Part Number: M55-7012642R; RoHS: Yes; Category: Connectors; Stock 1: 384; Pricing 1: 1=1.43000, 10=1.24900, 100=1.11570 (USD); RoHS Compliant: Yes; Supplier Part Number 1: 952-3878-1-ND
footprint M55-7012642R
pins: A1, A2, A3, A4, A5, A6, A7, A8, A9, A10, A11, A12, A13, B1, B2, B3, B4, B5, B6, B7, B8, B9, B10, B11, B12, B13, MH1, MH2, MP1, MP2, MP3, MP4

## MAX4236EUT+T
designator U?
IC OPAMP GP 1.7MHZ RRO SOT23-6; Manufacturer: Maxim; Common Mode Rejection Ratio: 102dB; Max Supply Voltage: 5.5V; Min Supply Voltage: 2.4V; Voltage Gain: 128dB; Max Power Dissipation: 696mW; Slew Rate: 0.3V/µs; Input Offset Voltage (Vos): 5uV; Input Bias Current: 1pA; Operating Supply Current: 350uA; Number of Channels: 1; Power Supply Rejection Ratio (PSRR): 120dB; Output Current per Channel: 30mA; Supply Type: Single; Dual Supply Voltage: 2.75V; Amplifier Type: GENERAL PURPOSE; Supplier 1: Digi-Key; Manufacturer Part Number: MAX4236EUT+T; RoHS: Yes; Category: Amplifiers - Op Amps, Buffer, Instrumentation; Stock 1: 5148; Pricing 1: 1=2.31000, 10=2.07800, 25=1.96000, 100=1.66990, 250=1.56800, 500=1.47000 (USD); Mount: Surface Mount; Case/Package: SOT-23-6; Number of Pins: 6; Contact Plating: Tin,Matte; Min Operating Temperature: -40°C; Max Operating Temperature: 85°C; Gain Bandwidth Product: 1.7MHz; Packaging: Tape and Reel; Package Quantity: 1; Number of Circuits: 1; Bandwidth: 1.7MHz; Nominal Supply Current: 350uA; Number of Amplifiers: 1; Supply Current: 350uA; Series: -; Length: 3mm; Width: 1.75mm; Height: 1.3mm; Radiation Hardening: No; REACH SVHC: Unknown; RoHS Compliant: Yes; ComponentLink1URL: https://datasheet.ciiva.com/26846/max4236eut-t-26846323.pdf?src-supplier=IIIC; ComponentLink1Description: https://datasheet.ciiva.com/26846/max4236eut-t-26846323.pdf?src-supplier=IIIC; ComponentLink2URL: https://datasheet.ciiva.com/1802/max4236-max4237-1802043.pdf?src-supplier=Digi-Key; ComponentLink2Description: https://datasheet.ciiva.com/1802/max4236-max4237-1802043.pdf?src-supplier=Digi-Key; ComponentLink3URL: https://datasheet.ciiva.com/14347/max4236-max4237-14347431.pdf?src-supplier=Avnet; ComponentLink3Description: https://datasheet.ciiva.com/14347/max4236-max4237-14347431.pdf?src-supplier=Avnet; ComponentLink4URL: https://datasheet.ciiva.com/1802/max4236-max4237-1802041.pdf?src-supplier=Digi-Key; ComponentLink4Description: https://datasheet.ciiva.com/1802/max4236-max4237-1802041.pdf?src-supplier=Digi-Key; ComponentLink5URL: https://datasheet.ciiva.com/1802/max4236-max4237-1802042.pdf?src-supplier=Digi-Key; ComponentLink5Description: https://datasheet.ciiva.com/1802/max4236-max4237-1802042.pdf?src-supplier=Digi-Key; ComponentLink6URL: https://datasheet.ciiva.com/17574/max4236-max4237-17574234.pdf?src-supplier=Avnet+Europe; ComponentLink6Description: https://datasheet.ciiva.com/17574/max4236-max4237-17574234.pdf?src-supplier=Avnet+Europe; Supplier Part Number 1: MAX4236EUT+TCT-ND
footprint SOT-23-6 (IC OPAMP GP 1 CIRCUIT SOT23-6)
pins: 1 OUT, 2 VEE, 3 +, 4 -, 5 ~{SHDN}, 6 VCC

## MAX14850ASE+
designator U?
DGTL ISO 600VRMS 6CH GP 16SOIC; Manufacturer: Maxim; Number of Channels: 6; Data Rate: 50Mbps; Propagation Delay: 20ns; Min Supply Voltage: 3V; Max Supply Voltage: 5.5V; Channel Type: Bidirectional; Operating Supply Current: 7.2mA; Max Power Dissipation: 1.067W; Isolated Power: No; Supplier 1: Future Electronics; Manufacturer Part Number: MAX14850ASE+; RoHS: Yes; Category: Interface ICs; Stock 1: 3; Pricing 1: 1=2.33000, 25=2.05000, 50=2.00000, 150=1.91000, 300=1.86000 (USD); Case/Package: SOIC; Number of Pins: 16; Min Operating Temperature: -40°C; Max Operating Temperature: 125°C; Package Quantity: 100; Packaging: Rail/Tube; Series: -; Type: General Purpose; REACH SVHC: Unknown; RoHS Compliant: Yes; ComponentLink1URL: http://www.farnell.com/datasheets/2001849.pdf?src-supplier=Farnell; ComponentLink1Description: http://www.farnell.com/datasheets/2001849.pdf?src-supplier=Farnell; ComponentLink2URL: http://www.mouser.com/ds/2/256/MAX14850-103728.pdf?src-supplier=Mouser; ComponentLink2Description: http://www.mouser.com/ds/2/256/MAX14850-103728.pdf?src-supplier=Mouser; ComponentLink3URL: http://datasheets.maximintegrated.com/en/ds/MAX14850.pdf?src-supplier=Avnet; ComponentLink3Description: http://datasheets.maximintegrated.com/en/ds/MAX14850.pdf?src-supplier=Avnet; ComponentLink4URL: http://www.farnell.com/datasheets/2001849.pdf?src-supplier=Element14; ComponentLink4Description: http://www.farnell.com/datasheets/2001849.pdf?src-supplier=Element14; ComponentLink5URL: https://pdfserv.maximintegrated.com/en/an/REFD5742.pdf?src-supplier=Digi-Key; ComponentLink5Description: https://pdfserv.maximintegrated.com/en/an/REFD5742.pdf?src-supplier=Digi-Key; Supplier Part Number 1: 3085078
footprint MAX14850ASE+
pins: 1 VCCA, 2 INA1, 3 INA2, 4 OUTA1, 5 OUTA2, 6 I/OA1, 7 I/OA2, 8 GNDA, 9 GNDB, 10 I/OB2, 11 I/OB1, 12 INB2, 13 INB1, 14 OUTB2, 15 OUTB1, 16 VCCB

## MAX31865ATP+
designator U?
IC RTD TO DIGITAL CONVERT 20QFN; Manufacturer: Maxim; Manufacturer Part Number: MAX31865ATP+; Interface: SPI; Output Type: SPI,Digital; Resolution: 15b; Number of Channels: 1; Min Supply Voltage: 3V; Max Supply Voltage: 3.6V; Accuracy: 0.05%; Operating Supply Voltage: 3.3V; Supplier: Mouser; Supplier Part Number: 700-MAX31865ATP+; RoHS: Yes; Category: Power Management ICs; Stock: 18924; Pricing: 1=8.1, 10=7.32, 50=6.98, 100=6.98, 1000=4.59, 10000=4.59 (USD); Case/Package: QFN; Pins: 20; Min Operating Temperature: -40°C; Max Operating Temperature: 125°C; Packaging: Tray; Package Quantity: 490; Series: -; Number of ADC Channels: 1; Number of Converters: 1; Length: 5.1mm; Width: 5.1mm; Height: 0.75mm; RoHS Compliant: Yes; Reach SVHC Compliant: Unknown; ComponentLink1URL: https://datasheet.ciiva.com/12071/max31865-218546-12071338.pdf?src-supplier=Mouser; ComponentLink1Description: https://datasheet.ciiva.com/12071/max31865-218546-12071338.pdf?src-supplier=Mouser; ComponentLink2URL: https://datasheet.ciiva.com/14083/max31865-14083680.pdf?src-supplier=Digi-Key; ComponentLink2Description: https://datasheet.ciiva.com/14083/max31865-14083680.pdf?src-supplier=Digi-Key; LCSC Part Number: C404011; Item Type: IC
footprint QFN-20-EP(5x5)
pins: 1 BIAS, 2 REFIN+, 3 REFIN-, 4 ISENSOR, 5 FORCE+, 6 FORCE2, 7 RTDIN+, 8 RTDIN-, 9 FORCE-, 10 GND2, 11 SDI, 12 SCLK, 13 ~{CS}, 14 SDO, 15 DGND, 16 GND1, 17 NC, 18 ~{DRDY}, 19 DVDD, 20 VDD, 21 EP

## MBRA320T3G
designator D?
DIODE, RECTIFIER, 3A 20V DO-214AC; Manufacturer: ON Semiconductor; Max Reverse Current: 2uA; Max Surge Current: 80A; Forward Voltage: 500mV; Element Configuration: Single; Supplier 1: Digi-Key; Manufacturer Part Number: MBRA320T3G; RoHS: Yes; Category: Rectifier Diodes; Stock 1: 52616; Pricing 1: 1=0.49000, 10=0.42300, 100=0.31610, 500=0.24836, 1000=0.19191, 2000=0.18638 (USD); Case/Package: SMA; Number of Pins: 2; Weight: 0.01lb; Min Operating Temperature: -65°C; Max Operating Temperature: 150°C; Package Quantity: 1; Forward Current: 3A; Packaging: Tape and Reel; Average Rectified Current: 3A; Max Reverse Leakage Current: 2uA; Max Repetitive Reverse Voltage (Vrrm): 20V; Peak Non-Repetitive Surge Current: 80A; Max Forward Surge Current (Ifsm): 80A; Max Reverse Voltage (DC): 20V; Series: -; Length: 4.57mm; Width: 2.92mm; Height: 2mm; Radiation Hardening: No; REACH SVHC: No SVHC; Lead Free: Lead Free; Halogen Free: Halogen Free; RoHS Compliant: Yes; ComponentLink1URL: https://datasheet.ciiva.com/13063/mbra320-d-107142-13063615.pdf?src-supplier=Mouser; ComponentLink1Description: https://datasheet.ciiva.com/13063/mbra320-d-107142-13063615.pdf?src-supplier=Mouser; ComponentLink2URL: https://datasheet.ciiva.com/6380/mbra320-d-6380880.pdf?src-supplier=Digi-Key; ComponentLink2Description: https://datasheet.ciiva.com/6380/mbra320-d-6380880.pdf?src-supplier=Digi-Key; ComponentLink3URL: https://datasheet.ciiva.com/25949/mbra320-d-25949904.pdf?src-supplier=Avnet+Europe; ComponentLink3Description: https://datasheet.ciiva.com/25949/mbra320-d-25949904.pdf?src-supplier=Avnet+Europe; ComponentLink4URL: https://datasheet.ciiva.com/30479/0900766b812212c1-30479617.pdf?src-supplier=RSComponents; ComponentLink4Description: https://datasheet.ciiva.com/30479/0900766b812212c1-30479617.pdf?src-supplier=RSComponents; ComponentLink5URL: https://datasheet.ciiva.com/26933/getdatasheetpartid-98376-26933255.pdf?src-supplier=Verical; ComponentLink5Description: https://datasheet.ciiva.com/26933/getdatasheetpartid-98376-26933255.pdf?src-supplier=Verical; ComponentLink6URL: https://datasheet.ciiva.com/7963/1840546-7963005.pdf?src-supplier=Element14; ComponentLink6Description: https://datasheet.ciiva.com/7963/1840546-7963005.pdf?src-supplier=Element14; ComponentLink7URL: https://datasheet.ciiva.com/8292/mbra320-d-8292126.pdf?src-supplier=Avnet; ComponentLink7Description: https://datasheet.ciiva.com/8292/mbra320-d-8292126.pdf?src-supplier=Avnet; ComponentLink8URL: https://datasheet.ciiva.com/16212/mbra320-d-16212459.pdf?src-supplier=Future+Electronics; ComponentLink8Description: https://datasheet.ciiva.com/16212/mbra320-d-16212459.pdf?src-supplier=Future+Electronics; Supplier Part Number 1: MBRA320T3GOSCT-ND
footprint MBRA320T3G (DIODE SCHOTTKY 20V 3A SMA)
pins: 1 K, 2 A

## MC7805BDTRKG
designator U?
IC REG LINEAR 5V 1A DPAK; Supplier 1: RSComponents; Supplier Part Number 1: 8056470P
footprint DPAK
pins: 1 IN, 2 GND, 3 O/P